# EAGLE library part AN7106K (library Audio-Power-amlifier V.2.0)
Single Chip Stereo Pre-amplifier/ Power Amplifier
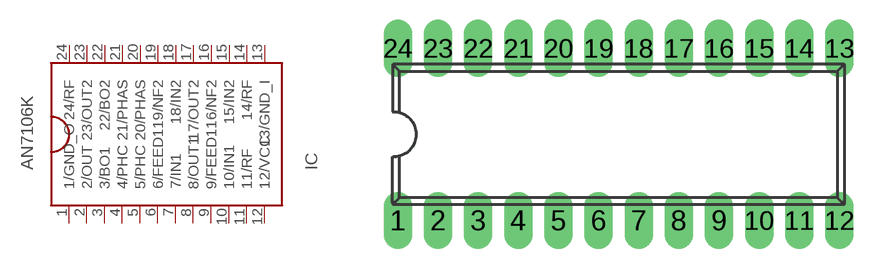
[diagram p138: symbol with the pads of DIL24-SHRUNK_1,778; footprint DIL24-SHRUNK_1,778]

Designator prefix IC

## AN7106K  [DIL24-SHRUNK_1,778]
1  1/GND_O  pwr
2  2/OUT  out
3  3/BO1
4  4/PHC
5  5/PHC
6  6/FEED1  in
7  7/IN1  in
8  8/OUT1  out
9  9/FEED1  in
10  10/IN1  in
11  11/RF
12  12/VCC  pwr
13  13/GND_I  pwr
14  14/RF
15  15/IN2  in
16  16/NF2  in
17  17/OUT2  out
18  18/IN2  in
19  19/NF2  in
20  20/PHAS
21  21/PHAS
22  22/BO2
23  23/OUT2  out
24  24/RF

## Footprint DIL24-SHRUNK_1,778 (pad centres in mm)
24-Lead Shrunk DIL Plastic Package
drill 0.6 pad 1.27 long: 1 -10.667,-3.812; 2 -8.889,-3.811; 3 -7.111,-3.81; 4 -5.333,-3.81; 5 -3.555,-3.811; 6 -1.777,-3.811; 7 0.001,-3.811; 8 1.778,-3.811; 9 3.557,-3.811; 10 5.335,-3.811; 11 7.113,-3.811; 12 8.891,-3.811; 13 8.892,3.81; 14 7.113,3.81; 15 5.335,3.81; 16 3.557,3.81; 17 1.779,3.81; 18 0.001,3.81; 19 -1.777,3.81; 20 -3.556,3.81; 21 -5.333,3.809; 22 -7.112,3.81; 23 -8.889,3.81; 24 -10.667,3.81